# EAGLE library part 6180XX231221_618009231221 (library WR-DSUB)
WR-DSUB 8.08 mm Male Angled PCB Connector w. Hex Screw Kind Properties Quality Class:3 as per IEC 60 603-13 Gender:Male Type:Angled Insulator Material:PBT Insulator Flammability Rating:UL94 V-0 Color:Black Contact Material:Copper Alloy Contact Plating:Gold Contact Type:Stamped Shielding Material:Steel Shielding Plating:Nickel General Information Operating Temperature:-55 up to +105 °C Compliance:RoHS Electrical Properties IR1:3 A Working Voltage:125 V (AC) Withstanding Voltage:100 V (AC) Contact Resistance:30 mΩ <https://www.we-online.com/catalog/media/o33083v209%20Family_WR-DSUB_6180xx231221.jpg> Details see: www.we-online.com/en/components/products/DSUB_MALE_ANGLED_PCB_CONNECTOR_W_HEX_SCREW_8_08MM_6180XX231221 Updated by Ella Wu 2023-03-21 2023 (C) Würth Elektronik
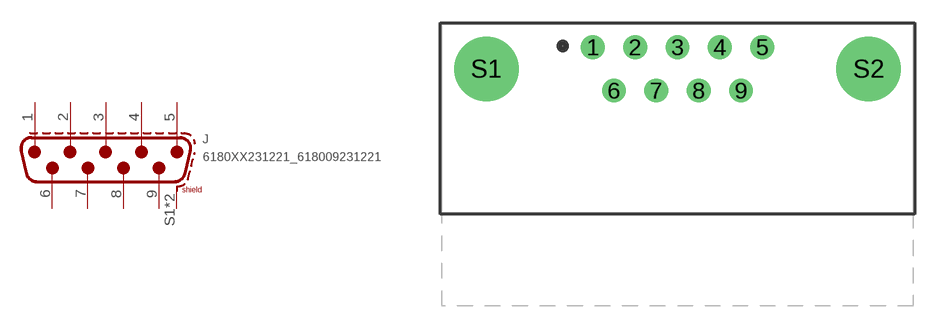
[diagram p49: symbol with the pads of 618009231221; footprint 618009231221]

Designator prefix J

## 6180XX231221_618009231221 (DATASHEET-URL: https://www.we-online.com/redexpert/spec/618009231221?ae; GENDER: Male; OPERATING-TEMPERATURE: -55 °C up to +105 °C; PART-NUMBER: 618009231221; PINS: 9; TYPE: Angled; VALUE: 618009231221; WORKING-VOLTAGE: 125VAC)  [618009231221]
1  1
2  2
3  3
4  4
5  5
6  6
7  7
8  8
9  9
S1  SHIELD
S2  SHIELD

## Footprint 618009231221 (pad centres in mm)
WR-DSUB 8.08mm Male Angled PCB Connector with Hex Screw, 9 Pins
drill 1.04: 1 -5.54,7.72; 2 -2.77,7.72; 3 0,7.72; 4 2.77,7.72; 5 5.54,7.72; 6 -4.155,4.88; 7 -1.385,4.88; 8 1.385,4.88; 9 4.155,4.88
drill 3.2: S1 -12.5,6.3; S2 12.5,6.3